# Altium schematic symbol library 395111008.SchLib: 1 symbol
Pins are listed as number, name and electrical type; pins without a type are passive.

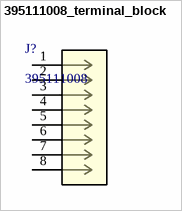
[diagram p0: symbol 395111008_terminal_block]

## 395111008_terminal_block
designator J?, comment 395111008
3.81mm Pitch Eurostyle Vertical PCB Header, 8 Circuits; Manufacturer_Name: Molex Connector Corporation; Copyright: Copyright (C) 2025 Ultra Librarian. All rights reserved.; Manufacturer_Part_Number: 395111008; RefDes: RefDes; Type: Type
footprint terminal_block_8_male
pins: 1, 2, 3, 4, 5, 6, 7, 8